# EAGLE library part CON-20 (library ampex)
EDGE CONNECTOR
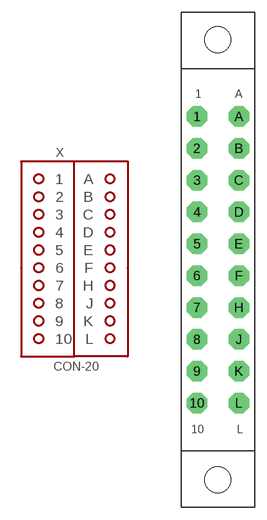
[diagram p3: symbol with the pads of CON-20; footprint CON-20]

Designator prefix X

## CON-20  [CON-20]
1  1  pas
2  2  pas
3  3  pas
4  4  pas
5  5  pas
6  6  pas
7  7  pas
8  8  pas
9  9  pas
10  10  pas
A  A  pas
B  B  pas
C  C  pas
D  D  pas
E  E  pas
F  F  pas
H  H  pas
J  J  pas
K  K  pas
L  L  pas

## Footprint CON-20 (pad centres in mm)
EDGE CONNECTOR
drill 1.27 pad 2.54 octagon: 1 -0.619,-3.962; 2 -0.619,-7.925; 3 -0.619,-11.887; 4 -0.619,-15.85; 5 -0.619,-19.812; 6 -0.619,-23.774; 7 -0.619,-27.737; 8 -0.619,-31.699; 9 -0.619,-35.662; 10 -0.619,-39.624; A 4.582,-3.962; B 4.582,-7.925; C 4.582,-11.887; D 4.582,-15.85; E 4.582,-19.812; F 4.582,-23.774; H 4.582,-27.737; J 4.582,-31.699; K 4.582,-35.662; L 4.582,-39.624
hole 3.226 at 1.981,5.572
hole 3.226 at 1.981,-49.158